# Altium schematic symbol library 7M-12.000MAAJ-T.SchLib: 1 symbol
Pins are listed as number, name and electrical type; pins without a type are passive.

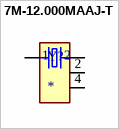
[diagram p0: symbol 7M-12.000MAAJ-T]

## 7M-12.000MAAJ-T
designator Y?
12 MHz Â±30ppm Crystal 18pF 100 Ohms 4-SMD, No Lead; MF: TXC CORPORATION; MP: 7M-12.000MAAJ-T; SnapEDA_Link: https://www.snapeda.com/parts/7M-12.000MAAJ-T/TXC/view-part/?ref=snap; Package: SMD-4 TXC; Value: *; Check_prices: https://www.snapeda.com/parts/7M-12.000MAAJ-T/TXC/view-part/?ref=eda
footprint OSCCC250X320X70-4N
pins: 1 3, 2 GND@1, 3 1, 4 GND@2